# Altium footprint library Connectors.PcbLib: 10 footprints
Each footprint in its own frame and in the unit in brackets; x right, y up, seen from the top. Pads: shape width x height; smd on the part's side, far side on the other; paste and mask are expansions set on the pad; w line width, h text height; cw(c..) or ccw(c..) is an arc to the next point about the centre after c.
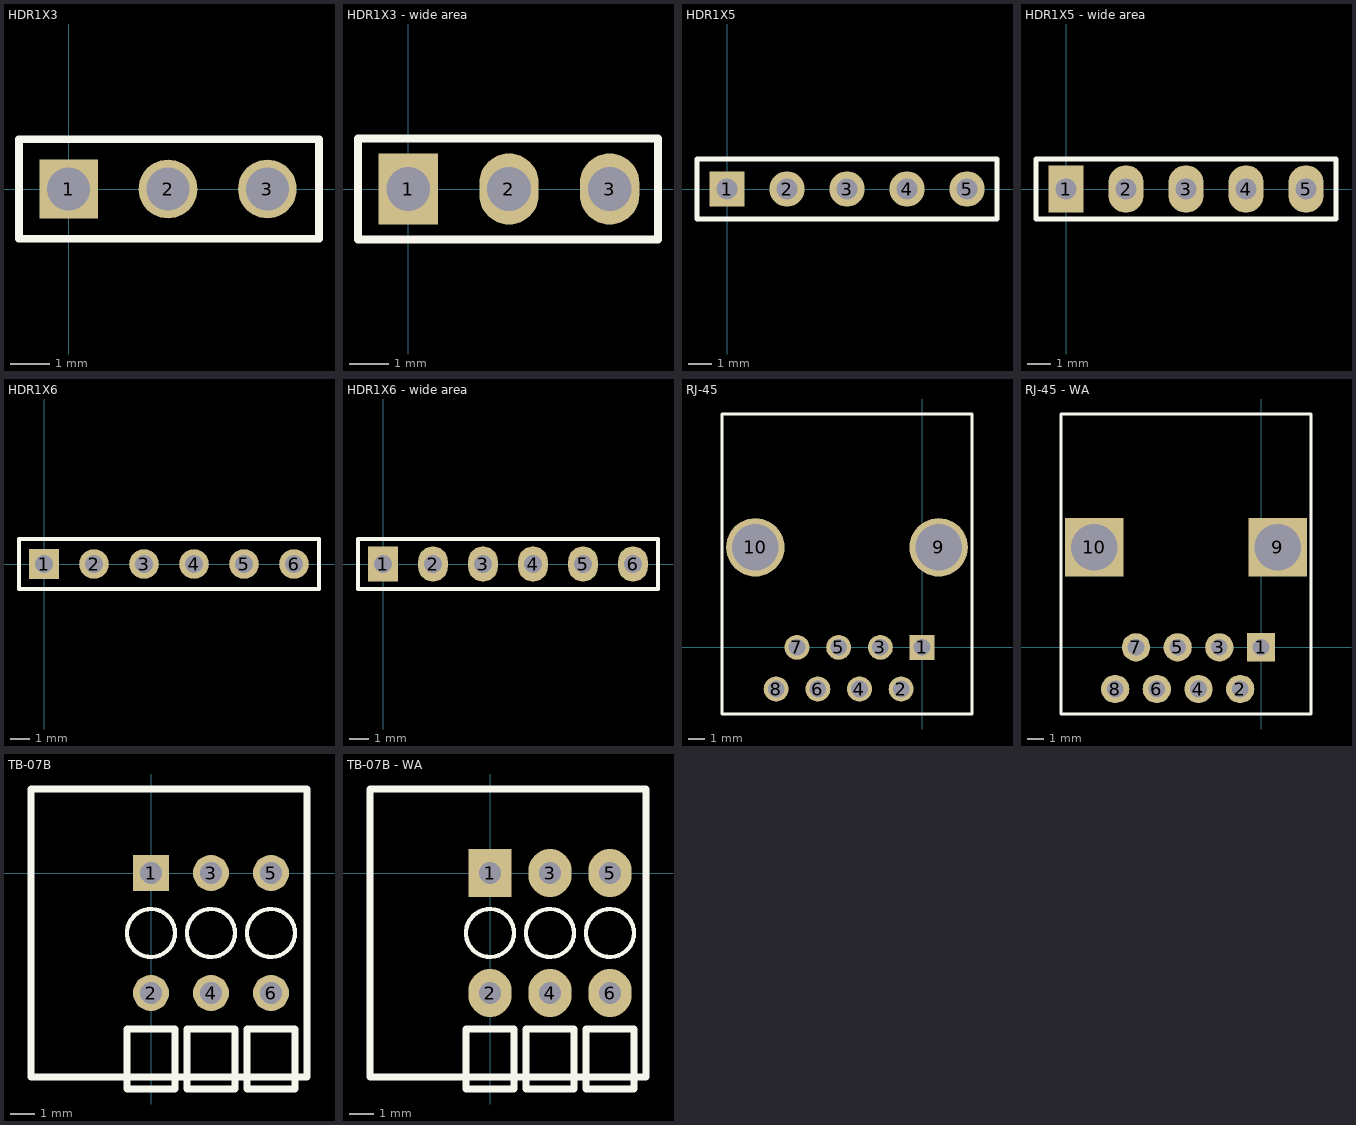
[diagram p0: the footprints below, top view; thin cyan lines are the x and y axes]

## HDR1X3 [mm] "Connector; Header; 3 Position"
pads (3):
  rect 1.5x1.5 hole 1.1: 1(0,0)
  round 1.5 hole 1.1: 2(2.54,0) 3(5.08,0)
Top Overlay:
  lines w0.2: -1.27,-1.27 6.4,-1.27 6.4,1.27 -1.27,1.27 -1.27,-1.27

## HDR1X3 - wide area [mm] "Connector; Header; 3 Position"
pads (3):
  rect 1.5x1.8 hole 1.1: 1(0,0)
  oval 1.5x1.8 hole 1.1: 2(2.54,0) 3(5.08,0)
Top Overlay:
  lines w0.2: -1.27,-1.27 -1.27,1.27 6.3,1.27 6.3,-1.27 -1.27,-1.27

## HDR1X5 [mm] "Connector; Header; 5 Position"
pads (5):
  rect 1.5x1.5 hole 0.9: 1(0,0)
  round 1.5 hole 0.9: 2(2.54,0) 3(5.08,0) 4(7.62,0) 5(10.16,0)
Top Overlay:
  lines w0.2: -1.27,-1.27 11.43,-1.27 11.43,1.27 -1.27,1.27 -1.27,-1.27

## HDR1X5 - wide area [mm] "Connector; Header; 5 Position"
pads (5):
  rect 1.5x2 hole 0.9: 1(0,0)
  oval 1.5x2 hole 0.9: 2(2.54,0) 3(5.08,0) 4(7.62,0) 5(10.16,0)
Top Overlay:
  lines w0.2: -1.27,-1.27 -1.27,1.27 11.43,1.27 11.43,-1.27 -1.27,-1.27

## HDR1X6 [mm] "Connector; Header; 6 Position"
pads (6):
  rect 1.5x1.5 hole 0.9: 1(0,0)
  round 1.5 hole 0.9: 2(2.54,0) 3(5.08,0) 4(7.62,0) 5(10.16,0) 6(12.7,0)
Top Overlay:
  lines w0.2: -1.27,-1.27 -1.27,1.27 13.97,1.27 13.97,-1.27 -1.27,-1.27

## HDR1X6 - wide area [mm] "Connector; Header; 6 Position"
pads (6):
  rect 1.5x1.8 hole 0.9: 1(0,0)
  oval 1.5x1.8 hole 0.9: 2(2.54,0) 3(5.08,0) 4(7.62,0) 5(10.16,0) 6(12.7,0)
Top Overlay:
  lines w0.2: -1.27,-1.27 13.97,-1.27 13.97,1.27 -1.27,1.27 -1.27,-1.27

## RJ-45 [mm]
pads (10):
  rect 1.5x1.5 hole 1: 1(0,0)
  round 1.5 hole 1: 2(-1.25,-2.5) 3(-2.5,0) 4(-3.75,-2.5) 5(-5,0) 6(-6.25,-2.5) 7(-7.5,0) 8(-8.75,-2.5)
  round 3.5 hole 2.8 unplated: 9(1,6) 10(-10,6)
Top Overlay:
  lines w0.2: -12,-4 3,-4 3,14 -12,14 -12,-4

## RJ-45 - WA [mm]
pads (10):
  rect 1.7x1.7 hole 1: 1(0,0)
  round 1.7 hole 1: 2(-1.25,-2.5) 3(-2.5,0) 4(-3.75,-2.5) 5(-5,0) 6(-6.25,-2.5) 7(-7.5,0) 8(-8.75,-2.5)
  rect 3.5x3.5 hole 2.8 unplated: 9(1,6) 10(-10,6)
Top Overlay:
  lines w0.2: -12,-4 -12,14 3,14 3,-4 -12,-4

## TB-07B [mm] "клемник http://www.brownbear.ru/goods/2886.html"
height 12.6
pads (6):
  rect 1.5x1.5 hole 0.9: 1(0,0)
  round 1.5 hole 0.9: 2(0,-5) 3(2.5,0) 4(2.5,-5) 5(5,0) 6(5,-5)
Top Overlay:
  circle w0.178: c0,-2.5 r1
  circle w0.178: c2.5,-2.5 r1
  circle w0.178: c5,-2.5 r1
  lines w0.3: -5,-8.5 6.5,-8.5 6.5,3.5 -5,3.5 -5,-8.5 ; -1,-9 -1,-6.5 1,-6.5 1,-9 -1,-9 ; 1.5,-9 3.5,-9 3.5,-6.5 1.5,-6.5 1.5,-9 ; 4,-9 6,-9 6,-6.5 4,-6.5 4,-9

## TB-07B - WA [mm] "клемник http://www.brownbear.ru/goods/2886.html"
height 12.6
pads (6):
  rect 1.8x2 hole 0.9: 1(0,0)
  oval 1.8x2 hole 0.9: 2(0,-5) 3(2.5,0) 4(2.5,-5) 5(5,0) 6(5,-5)
Top Overlay:
  circle w0.178: c0,-2.5 r1
  circle w0.178: c2.5,-2.5 r1
  circle w0.178: c5,-2.5 r1
  lines w0.3: -5,-8.5 -5,3.5 6.5,3.5 6.5,-8.5 -5,-8.5 ; -1,-9 1,-9 1,-6.5 -1,-6.5 -1,-9 ; 1.5,-9 1.5,-6.5 3.5,-6.5 3.5,-9 1.5,-9 ; 4,-9 4,-6.5 6,-6.5 6,-9 4,-9